# Altium schematic symbol library baseControl.SCHLIB: 32 symbols
Pins are listed as number, name and electrical type; pins without a type are passive.

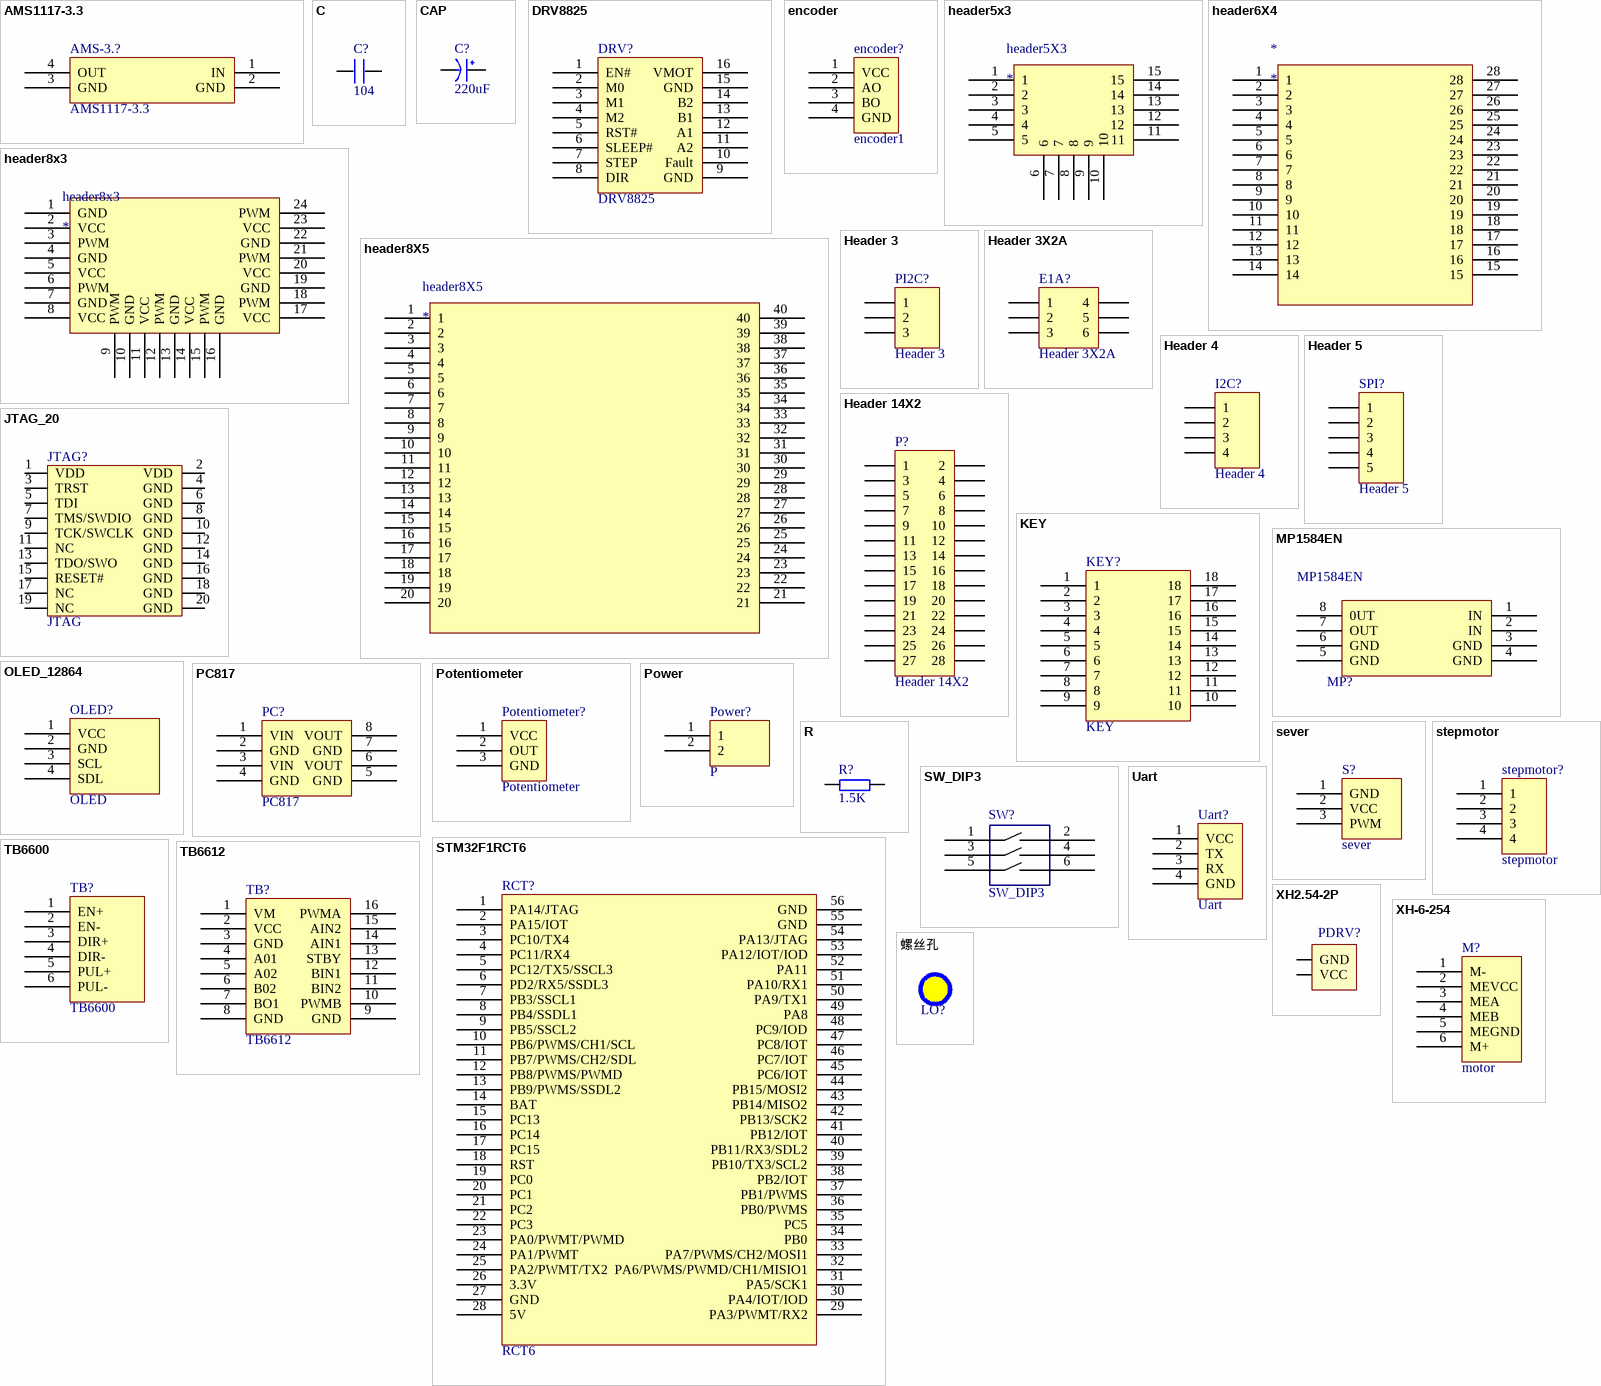
[diagram p0: symbols AMS1117-3.3 to 螺丝孔]

## AMS1117-3.3
designator AMS-3.?
footprint AMS1117-3.3
footprint XH-4-254
pins: 1 IN "OUT1", 2 GND "OUT1", 3 GND "OUT1", 4 OUT "OUT1"

## C
designator C?, comment 104
footprint 0603P
footprint 0805
pins: 1, 2

## CAP
designator C?, comment 220uF
footprint CC6.56.5
footprint 0805p
footprint cd10
footprint 钽电容C
footprint 钽电容A
footprint 钽电容B
footprint 钽电容E
footprint 220 25V
footprint 220UF 63V
pins: 1 VCC, 2 GND

## DRV8825
designator DRV?
footprint DRV8825
pins: 1 EN# "OUT1", 2 M0 "OUT1", 3 M1 "OUT1", 4 M2 "OUT1", 5 RST# "OUT1", 6 SLEEP# "OUT1", 7 STEP "OUT1", 8 DIR "OUT1", 9 GND "OUT1", 10 Fault "OUT1", 11 A2 "OUT1", 12 A1 "OUT1", 13 B1 "OUT1", 14 B2 "OUT1", 15 GND "OUT1", 16 VMOT "OUT1"

## encoder
designator encoder?, comment encoder1
footprint XH-4-254
pins: 1 VCC "OUT1", 2 AO "OUT1", 3 BO "OUT1", 4 GND "OUT1"

## header5x3
designator header5X3
footprint header5X3
pins: 1 "OUT1", 2 "OUT1", 3 "OUT1", 4 "OUT1", 5 "OUT1", 6 "OUT1", 7 "OUT1", 8 "OUT1", 9 "OUT1", 10 "OUT1", 11 "OUT1", 12 "OUT1", 13 "OUT1", 14 "OUT1", 15 "OUT1"

## header6X4
designator *
footprint header6X4
footprint Model Name (Footprint not found)
footprint header7X4
pins: 1 "OUT1", 2 "OUT1", 3 "OUT1", 4 "OUT1", 5 "OUT1", 6 "OUT1", 7 "OUT1", 8 "OUT1", 9 "OUT1", 10 "OUT1", 11 "OUT1", 12 "OUT1", 13 "OUT1", 14 "OUT1", 15 "OUT1", 16 "OUT1", 17 "OUT1", 18 "OUT1", 19 "OUT1", 20 "OUT1", 21 "OUT1", 22 "OUT1", 23 "OUT1", 24 "OUT1", 25 "OUT1", 26 "OUT1", 27 "OUT1", 28 "OUT1"

## header8x3
designator header8x3
footprint header8x3
pins: 1 GND "OUT1", 2 VCC "OUT1", 3 PWM "OUT1", 4 GND "OUT1", 5 VCC "OUT1", 6 PWM "OUT1", 7 GND "OUT1", 8 VCC "OUT1", 9 PWM "OUT1", 10 GND "OUT1", 11 VCC "OUT1", 12 PWM "OUT1", 13 GND "OUT1", 14 VCC "OUT1", 15 PWM "OUT1", 16 GND "OUT1", 17 VCC "OUT1", 18 PWM "OUT1", 19 GND "OUT1", 20 VCC "OUT1", 21 PWM "OUT1", 22 GND "OUT1", 23 VCC "OUT1", 24 PWM "OUT1"

## header8X5
designator header8X5
footprint header8x5
pins: 1 "OUT1", 2 "OUT1", 3 "OUT1", 4 "OUT1", 5 "OUT1", 6 "OUT1", 7 "OUT1", 8 "OUT1", 9 "OUT1", 10 "OUT1", 11 "OUT1", 12 "OUT1", 13 "OUT1", 14 "OUT1", 15 "OUT1", 16 "OUT1", 17 "OUT1", 18 "OUT1", 19 "OUT1", 20 "OUT1", 21 "OUT1", 22 "OUT1", 23 "OUT1", 24 "OUT1", 25 "OUT1", 26 "OUT1", 27 "OUT1", 28 "OUT1", 29 "OUT1", 30 "OUT1", 31 "OUT1", 32 "OUT1", 33 "OUT1", 34 "OUT1", 35 "OUT1", 36 "OUT1", 37 "OUT1", 38 "OUT1", 39 "OUT1", 40 "OUT1"

## Header 3
designator PI2C?
Header, 3-Pin; LatestRevisionDate: 17-Jul-2002; LatestRevisionNote: Re-released for DXP Platform.; Publisher: Altium Limited
footprint HDR1X3 (Connector; Header; 3 Position)
signal-integrity model Connector
pins: 1, 2, 3

## Header 3X2A
designator E1A?
Header, 3-Pin, Dual row; LatestRevisionDate: 17-Jul-2002; LatestRevisionNote: Re-released for DXP Platform.; Publisher: Altium Limited
footprint HDR2X3_CEN (Connector; Header; 3x2 Position)
signal-integrity model Connector
pins: 1, 2, 3, 4, 5, 6

## Header 4
designator I2C?
Header, 4-Pin; LatestRevisionDate: 17-Jul-2002; LatestRevisionNote: Re-released for DXP Platform.; Publisher: Altium Limited
footprint HDR1X4 (Connector; Header; 4 Position)
signal-integrity model Connector
pins: 1, 2, 3, 4

## Header 5
designator SPI?
Header, 5-Pin; LatestRevisionDate: 17-Jul-2002; LatestRevisionNote: Re-released for DXP Platform.; Publisher: Altium Limited
footprint HDR1X5 (Connector; Header; 5 Position)
signal-integrity model Connector
pins: 1, 2, 3, 4, 5

## Header 14X2
designator P?
Header, 14-Pin, Dual row; LatestRevisionDate: 17-Jul-2002; LatestRevisionNote: Re-released for DXP Platform.; Publisher: Altium Limited
footprint HDR2X14 (Connector; Header; 14x2 Position)
signal-integrity model Connector
pins: 1, 2, 3, 4, 5, 6, 7, 8, 9, 10, 11, 12, 13, 14, 15, 16, 17, 18, 19, 20, 21, 22, 23, 24, 25, 26, 27, 28

## JTAG_20
designator JTAG?, comment JTAG
footprint JTAG_20
pins: 1 VDD, 2 VDD, 3 TRST, 4 GND, 5 TDI, 6 GND, 7 TMS/SWDIO, 8 GND, 9 TCK/SWCLK, 10 GND, 11 NC, 12 GND, 13 TDO/SWO, 14 GND, 15 RESET#, 16 GND, 17 NC, 18 GND, 19 NC, 20 GND

## KEY
designator KEY?
footprint KEY
pins: 1 "OUT1", 2 "OUT1", 3 "OUT1", 4 "OUT1", 5 "OUT1", 6 "OUT1", 7 "OUT1", 8 "OUT1", 9 "OUT1", 10 "OUT1", 11 "OUT1", 12 "OUT1", 13 "OUT1", 14 "OUT1", 15 "OUT1", 16 "OUT1", 17 "OUT1", 18 "OUT1"

## MP1584EN
designator MP?
footprint MP1584EN
pins: 1 IN "OUT1", 2 IN "OUT1", 3 GND "OUT1", 4 GND "OUT1", 5 GND "OUT1", 6 GND "OUT1", 7 OUT "OUT1", 8 0UT "OUT1"

## OLED_12864
designator OLED?, comment OLED
footprint OLED_12864
pins: 1 VCC "OUT1", 2 GND "OUT1", 3 SCL "OUT1", 4 SDL "OUT1"

## PC817
designator PC?
footprint DIP4
pins: 1 VIN "OUT1", 2 GND "OUT1", 3 VIN "OUT1", 4 GND "OUT1", 5 GND "OUT1", 6 VOUT "OUT1", 7 GND "OUT1", 8 VOUT "OUT1"

## Potentiometer
designator Potentiometer?
footprint Potentiometer
pins: 1 VCC "OUT1", 2 OUT "OUT1", 3 GND "OUT1"

## Power
designator Power?, comment P
footprint Power
pins: 1 "OUT1", 2 "OUT1"

## R
designator R?, comment 1.5K
footprint 0603P
footprint 0805
pins: 1, 2

## sever
designator S?
footprint XH-3-2.54
footprint Model Name (Footprint not found)
footprint 3Pin
pins: 1 GND "OUT1", 2 VCC "OUT1", 3 PWM "OUT1"

## stepmotor
designator stepmotor?
footprint XH-4-254
pins: 1 "OUT1", 2 "OUT1", 3 "OUT1", 4 "OUT1"

## STM32F1RCT6
designator RCT?, comment RCT6
footprint STM32F1RCT6
pins: 1 PA14/JTAG, 2 PA15/IOT, 3 PC10/TX4, 4 PC11/RX4, 5 PC12/TX5/SSCL3, 6 PD2/RX5/SSDL3, 7 PB3/SSCL1, 8 PB4/SSDL1, 9 PB5/SSCL2, 10 PB6/PWMS/CH1/SCL, 11 PB7/PWMS/CH2/SDL, 12 PB8/PWMS/PWMD, 13 PB9/PWMS/SSDL2, 14 BAT, 15 PC13, 16 PC14, 17 PC15, 18 RST, 19 PC0, 20 PC1, 21 PC2, 22 PC3, 23 PA0/PWMT/PWMD, 24 PA1/PWMT, 25 PA2/PWMT/TX2, 26 3.3V, 27 GND, 28 5V, 29 PA3/PWMT/RX2, 30 PA4/IOT/IOD, 31 PA5/SCK1, 32 PA6/PWMS/PWMD/CH1/MISIO1, 33 PA7/PWMS/CH2/MOSI1, 34 PB0, 35 PC5, 36 PB0/PWMS, 37 PB1/PWMS, 38 PB2/IOT, 39 PB10/TX3/SCL2, 40 PB11/RX3/SDL2, 41 PB12/IOT, 42 PB13/SCK2, 43 PB14/MISO2, 44 PB15/MOSI2, 45 PC6/IOT, 46 PC7/IOT, 47 PC8/IOT, 48 PC9/IOD, 49 PA8, 50 PA9/TX1, 51 PA10/RX1, 52 PA11, 53 PA12/IOT/IOD, 54 PA13/JTAG, 55 GND, 56 GND

## SW_DIP3
designator SW?
footprint SW_DIP3
pins: 1 "OUT1", 2 "OUT1", 3 "OUT1", 4 "OUT1", 5 "OUT1", 6 "OUT1"

## TB6600
designator TB?
footprint XH-6-254
pins: 1 EN+ "OUT1", 2 EN- "OUT1", 3 DIR+ "OUT1", 4 DIR- "OUT1", 5 PUL+ "OUT1", 6 PUL- "OUT1"

## TB6612
designator TB?
footprint TB6612
pins: 1 VM "OUT1", 2 VCC "OUT1", 3 GND "OUT1", 4 A01 "OUT1", 5 A02 "OUT1", 6 B02 "OUT1", 7 BO1 "OUT1", 8 GND "OUT1", 9 GND "OUT1", 10 PWMB "OUT1", 11 BIN2 "OUT1", 12 BIN1 "OUT1", 13 STBY "OUT1", 14 AIN1 "OUT1", 15 AIN2 "OUT1", 16 PWMA "OUT1"

## Uart
designator Uart?
footprint uartModel
footprint uart
pins: 1 VCC "OUT1", 2 TX "OUT1", 3 RX "OUT1", 4 GND "OUT1"

## XH2.54-2P
designator PDRV?  (value not drawn)
footprint XH2.54-2P
pins: 1 GND, 2 VCC

## XH-6-254
designator M?, comment motor
footprint XH-6-254
pins: 1 M- "OUT1", 2 MEVCC "OUT1", 3 MEA "OUT1", 4 MEB "OUT1", 5 MEGND "OUT1", 6 M+ "OUT1"

## 螺丝孔
designator LO?  (value not drawn)
footprint VIA